# EAGLE library part MCP2551T-I/SN (library IGVC-Microcontroller)
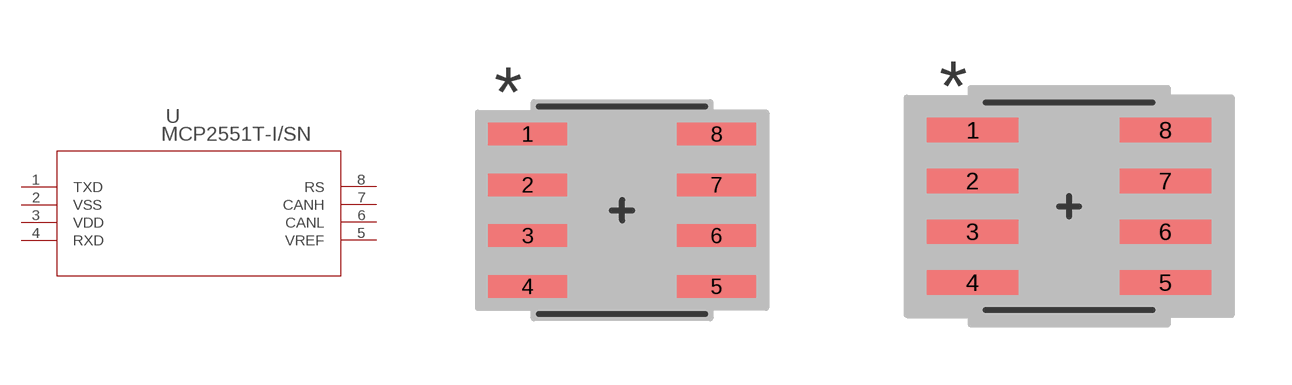
[diagram p1: symbol with the pads of SOIC8-N_MC; footprints SOIC8-N_MC, SOIC8-N_MC-M]

Designator prefix U

## MCP2551T-I/SN (MANUFACTURER_PART_NUMBER: MCP2551TISN; VENDOR: Microchip)  [SOIC8-N_MC]
1  TXD  pas
2  VSS  pas
3  VDD  pas
4  RXD  pas
5  VREF  pas
6  CANL  pas
7  CANH  pas
8  RS  pas

## MCP2551T-I/SNSOIC8-N_MC-M (MANUFACTURER_PART_NUMBER: MCP2551TISN; VENDOR: Microchip)  [SOIC8-N_MC-M]
Pads as for SOIC8-N_MC

## MCP2551T-I/SNSOIC8-N_MC-L (MANUFACTURER_PART_NUMBER: MCP2551TISN; VENDOR: Microchip)  [SOIC8-N_MC-L]
Pads as for SOIC8-N_MC

## Footprint SOIC8-N_MC (pad centres in mm)
smd 1.981 x 0.559: 1 -2.362,1.905; 2 -2.362,0.635; 3 -2.362,-0.635; 4 -2.362,-1.905; 5 2.362,-1.905; 6 2.362,-0.635; 7 2.362,0.635; 8 2.362,1.905

## Footprint SOIC8-N_MC-M (pad centres in mm)
smd 2.286 x 0.61: 1 -2.413,1.905; 2 -2.413,0.635; 3 -2.413,-0.635; 4 -2.413,-1.905; 5 2.413,-1.905; 6 2.413,-0.635; 7 2.413,0.635; 8 2.413,1.905

## Footprint SOIC8-N_MC-L (pad centres in mm)
smd 1.676 x 0.508: 1 -2.311,1.905; 2 -2.311,0.635; 3 -2.311,-0.635; 4 -2.311,-1.905; 5 2.311,-1.905; 6 2.311,-0.635; 7 2.311,0.635; 8 2.311,1.905